# Altium footprint library PCB_ANT_VIV_24GHZ_DIFF.PcbLib: 1 footprints
Each footprint in its own frame and in the unit in brackets; x right, y up, seen from the top. Pads: shape width x height; smd on the part's side, far side on the other; paste and mask are expansions set on the pad; w line width, h text height; cw(c..) or ccw(c..) is an arc to the next point about the centre after c.
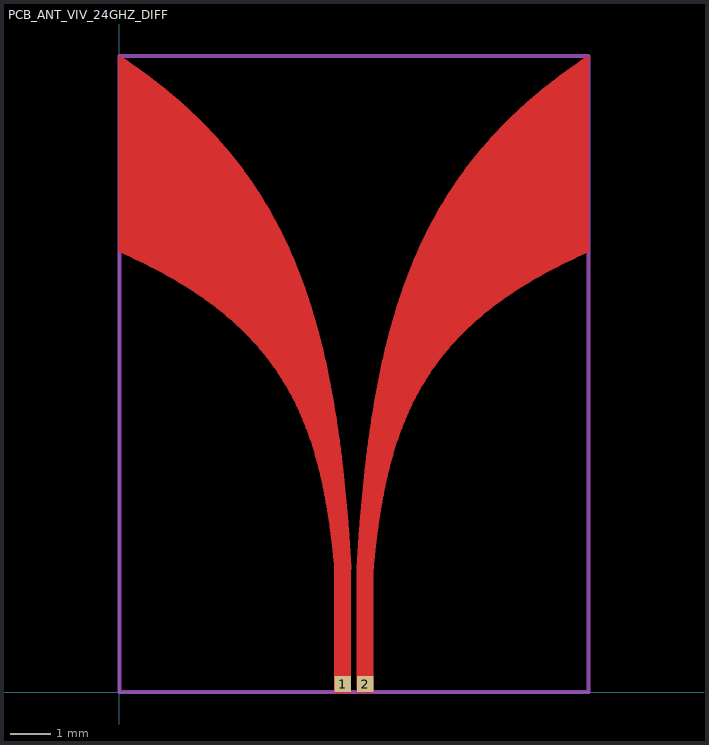
[diagram p0: the footprint, top view; thin cyan lines are the x and y axes]

## PCB_ANT_VIV_24GHZ_DIFF [mm]
pads (2):
  rect 0.4x0.4 smd paste-5: 1(5.475,0.2) 2(6.025,0.2)
Top Layer:
  drawing of 806 lines, arcs and shapes, not listed
Mechanical 15:
  lines w0.1: 0,0 11.5,0 11.5,15.6 0,15.6 0,0